# EAGLE library part 8X2SMD (library monome)
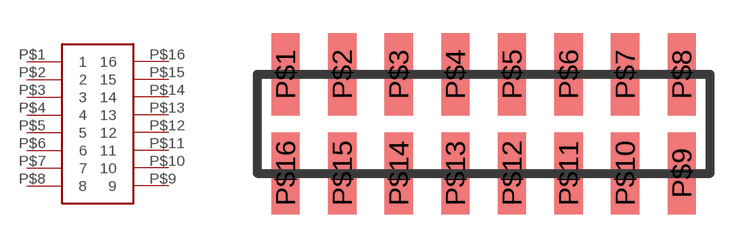
[diagram p25: symbol with the pads of 8X2SMD; footprint 8X2SMD]

Designator prefix -

## 8X2SMD  [8X2SMD]
P$1  1
P$2  2
P$3  3
P$4  4
P$5  5
P$6  6
P$7  7
P$8  8
P$9  9
P$10  10
P$11  11
P$12  12
P$13  13
P$14  14
P$15  15
P$16  16

## Footprint 8X2SMD (pad centres in mm)
smd 1.27 x 3.683: P$1 0,0; P$2 2.54,0; P$3 5.08,0; P$4 7.62,0; P$5 10.16,0; P$6 12.7,0; P$7 15.24,0; P$8 17.78,0; P$9 17.78,-4.445; P$10 15.24,-4.445; P$11 12.7,-4.445; P$12 10.16,-4.445; P$13 7.62,-4.445; P$14 5.08,-4.445; P$15 2.54,-4.445; P$16 0,-4.445